# Altium integrated library PRJ_AT89.IntLib: 21 symbols
Pins are listed as number, name and electrical type; pins without a type are passive.

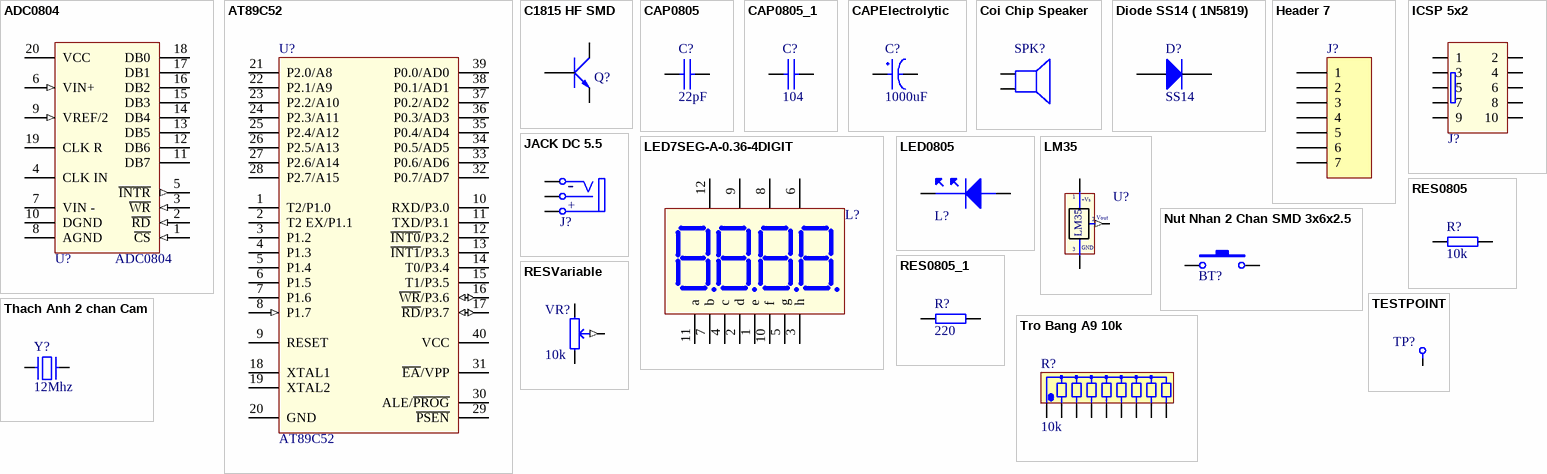
[diagram p0: symbols ADC0804 to Tro Bang A9 10k]

## ADC0804
designator U?
THT; Ten_Linh_Kien: ADC0804LCN DIP20; Don_Vi: Con; Ma_Hang: MH002626; Chung_Loai: Cắm; Ghi_Chu: *; Kieu_Chan: *
footprint DIP20 (DIP 20, 20 PIN, W 300mil, Pin to pin 100mil)
pins: 1 ~{CS} (in), 2 ~{RD} (in), 3 ~{WR} (in), 4 CLK IN, 5 ~{INTR} (out), 6 VIN+ (in), 7 VIN -, 8 AGND (power), 9 VREF/2 (in), 10 DGND (power), 11 DB7 (hiz), 12 DB6 (hiz), 13 DB5 (hiz), 14 DB4 (hiz), 15 DB3 (hiz), 16 DB2 (hiz), 17 DB1 (hiz), 18 DB0 (hiz), 19 CLK R, 20 VCC (power)

## AT89C52
designator U?
THT; Ten_Linh_Kien: AT89C52-24PC DIP40; Don_Vi: Con; Ma_Hang: MH002200; Chung_Loai: Cắm; Ghi_Chu: *; Kieu _Chan: *
footprint DIP40/W0.6 (40 PIN, W 600mil, Pin to pin 100mil)
pins: 1 T2/P1.0, 2 T2 EX/P1.1, 3 P1.2, 4 P1.3, 5 P1.4, 6 P1.5, 7 P1.6, 8 P1.7 (in), 9 RESET, 10 RXD/P3.0, 11 TXD/P3.1, 12 ~{INT0}/P3.2, 13 ~{INT1}/P3.3, 14 T0/P3.4, 15 T1/P3.5, 16 ~{WR}/P3.6 (io), 17 ~{RD}/P3.7 (io), 18 XTAL1, 19 XTAL2, 20 GND, 21 P2.0/A8, 22 P2.1/A9, 23 P2.2/A10, 24 P2.3/A11, 25 P2.4/A12, 26 P2.5/A13, 27 P2.6/A14, 28 P2.7/A15, 29 ~{PSEN}, 30 ALE/~{PROG}, 31 ~{EA}/VPP, 32 P0.7/AD7, 33 P0.6/AD6, 34 P0.5/AD5, 35 P0.4/AD4, 36 P0.3/AD3, 37 P0.2/AD2, 38 P0.1/AD1, 39 P0.0/AD0, 40 VCC (power)

## C1815 HF SMD
designator Q?, comment HF  (value not drawn)
NPN transistor; Value: C9014
footprint SOT23
pins: 1 B, 2 E, 3 C

## CAP0805
designator C?, comment 22pF
SMD; Chung_Loai: Dán; Don_Vi: Con; So_Chan: 2; Ten_Linh_Kien: Tụ 0805 104-100nF 10% 50V; Ma_Hang: MH004551; Kieu_Chan: *
footprint tu 0805 (Compoment SMD 80x50mil)
pins: 1, 2

## CAP0805_1
designator C?, comment 104
SMD; Chung_Loai: Dán; Don_Vi: Con; So_Chan: 2; Ten_Linh_Kien: Tụ 0805 104-100nF 10% 50V; Ma_Hang: MH004551; Kieu_Chan: *
footprint tu 0805 (Compoment SMD 80x50mil)
pins: 1, 2

## CAPElectrolytic
designator C?, comment 1000uF
THT; Chung_Loai: Cắm; So_Chan: 2; Don_Vi: Con; Ten_Linh_Kien: Tụ Hóa 1000uF 10V 10x12MM; Ma_Hang: MH006614; Kieu_Chan: *
footprint tu hoa 10mm
pins: 1, 2

## Coi Chip Speaker
designator SPK?, comment Speaker  (value not drawn)
Còi chip
footprint Coi Chip Speacker
pins: 1, 2

## Diode SS14 ( 1N5819)
designator D?, comment SS14
Dán; Ma_Hang: MH002211; Don_Vi: Con; Ten_Linh_Kien: Diode SS14 DO214 Schottky 1A 40V ( 1N5819 DO214); Chung_Loai: Dán; Ghi_Chu: *; Kieu_Chan: *
footprint DIODE SMA (SMA)
pins: 1 A, 2 K

## Header 7
designator J?  (value not drawn)
Header, 7-Pin; LatestRevisionDate: 17-Jul-2002; LatestRevisionNote: Re-released for DXP Platform.; Publisher: Altium Limited
footprint HDR1X7 (Connector; Header; 7 Position)
signal-integrity model Connector
pins: 1, 2, 3, 4, 5, 6, 7

## ICSP 5x2
designator J?, comment IDC 5X2  (value not drawn)
THT; Value: Header 5x2
footprint IDC10
pins: 1, 2, 3, 4, 5, 6, 7, 8, 9, 10

## JACK DC 5.5
designator J?  (value not drawn)
THT; Value: Jac DC
footprint JACK DC 5.5 (Jac DC input)
pins: 1 T "Tip", 2 TN "Tip Normal (Break Contact)", 3 S (power) "Sleeve (Ground)"
text: -; +

## LED7SEG-A-0.36-4DIGIT
designator L?, comment Led 7 Segment 4 digitals  (value not drawn)
4 digit 7 segment anot; Solder: WAVE; Category: LED
footprint LED7SEG-4-0.36
pins: 1 e, 2 d, 3 h, 4 c, 5 g, 6 V4, 7 b, 8 V3, 9 V2, 10 f, 11 a, 12 V1

## LED0805
designator L?, comment LED 0805  (value not drawn)
SMD; Don_Vi: Con; Chung_Loai: Dán; Ma_Hang: MH000897; Ten_Linh_Kien: LED 0805 Màu Đỏ (Red); Ghi_Chu: *; Kieu_Chan: *
footprint LED-0805-Red
pins: 1 A, 2 K

## LM35
designator U?  (value not drawn)
THT; Value: LM35
footprint QTO-92 (TO-92)
pins: 1 +Vs, 2 Vout (out), 3 -
text: GND

## Nut Nhan 2 Chan SMD 3x6x2.5
designator BT?  (value not drawn)
Ma_Hang: MH001036; Ten: Nút Nhấn 2 Chân 3x6x2.5MM SMD
footprint Nut Nhan 2 Chan SMD 3x6x2.5 (Footprint not found)
pins: 1, 2

## RES0805
designator R?, comment 10k
SMD; Chung_Loai: Dán; Don_Vi: Con; So_Chan: 2; Ten_Linh_Kien: Trở 0805 1% 10k; Ma_Hang: MH005473; Kieu_Chan: *
footprint tro smd 0805
pins: 1, 2

## RES0805_1
designator R?, comment 220
SMD; Chung_Loai: Dán; Don_Vi: Con; So_Chan: 2; Ten_Linh_Kien: Trở 0805 1% 10k; Ma_Hang: MH005473; Kieu_Chan: *
footprint tro smd 0805
pins: 1, 2

## RESVariable
designator VR?, comment 10k
THT; Ma_Hang: MH003232; Ten_Linh_Kien: Biến Trở VR 103-10K 3296W; Chung_Loai: Cắm; Don_Vi: Con; Kieu_Chan: *; Ghi_Chu: *
footprint Bien Tro Vi Chinh Dung (Bien tro vi chinh)
pins: 1, 2 (out), 3

## TESTPOINT
designator TP?  (value not drawn)  (no BOM)
SMD
footprint Testpoint
pins: 1 TP

## Thach Anh 2 chan Cam
designator Y?, comment 12Mhz
Crystal For all Crystal 2pin.; Value: 4Mhz
footprint Thach Anh 2 chan cam
pins: 1, 2

## Tro Bang A9 10k
designator R?, comment 10k
Cắm; Don_Vi: Con; So_Chan: 9; Ten_Linh_Kien: Trở Băng A09-103 10k 1/8w 5%; Ma_Hang: MH001442; Chung_Loai: Cắm; Kieu_Chan: *
footprint tro bang a9
pins: 1, 2, 3, 4, 5, 6, 7, 8, 9